# Altium footprint library WL-TMRC_5MM.PcbLib: 1 footprints
Each footprint in its own frame and in the unit in brackets; x right, y up, seen from the top. Pads: shape width x height; smd on the part's side, far side on the other; paste and mask are expansions set on the pad; w line width, h text height; cw(c..) or ccw(c..) is an arc to the next point about the centre after c.
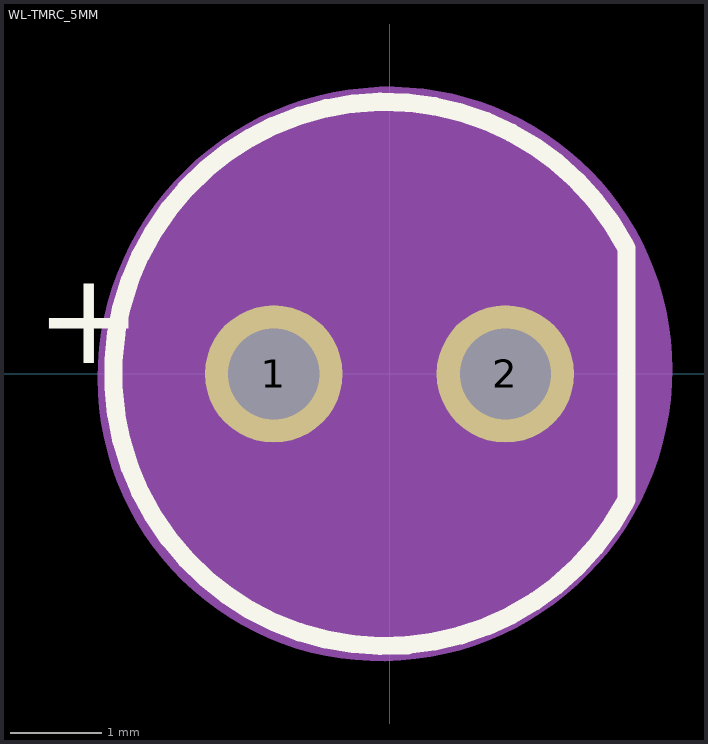
[diagram p0: the footprint, top view; thin cyan lines are the x and y axes]

## WL-TMRC_5MM [mm]
pads (2):
  round 1.508 hole 1: 1(-1.27,0) 2(1.27,0)
Top Overlay:
  lines w0.2: 2.589,-1.401 cw(c-0.047,0) 2.589,1.401 ; 2.6,-1.38 2.6,1.38
  text "+" at -3.88,0.118 h1.02
Assembly Top:
  circle w0.1: c0,0 r2.5
  lines w0.1: 2.493,-1.452 cw(c-0.021,0) 2.493,1.452 ; 2.5,-1.44 2.5,1.44
  text "+" at -3.887,0.131 h1.02
Courtyard Top:
  region: 0.216,3.141 0.376,3.126 0.534,3.103 0.692,3.071 0.847,3.031 1,2.983 1.151,2.928 1.298,2.865 1.442,2.794 1.582,2.715 1.718,2.63 1.849,2.538 1.975,2.439 2.096,2.334 2.212,2.222 2.321,2.105 2.424,1.982 2.521,1.854 2.611,1.721 2.694,1.584 2.77,1.443 2.838,1.297 2.899,1.149 2.952,0.998 2.997,0.844 3.034,0.688 3.063,0.53 3.083,0.371 3.096,0.211 3.1,0.05 3.096,-0.116 3.083,-0.281 3.061,-0.445 3.032,-0.608 2.993,-0.77 2.947,-0.929 2.892,-1.085 2.829,-1.238 2.759,-1.388 2.681,-1.534 2.595,-1.676 2.502,-1.813 2.402,-1.945 2.295,-2.072 2.182,-2.193 2.063,-2.308 1.938,-2.417 1.808,-2.519 1.672,-2.615 1.532,-2.703 1.387,-2.784 1.239,-2.857 1.087,-2.922 0.931,-2.98 0.773,-3.029 0.613,-3.07 0.45,-3.103 0.286,-3.127 0.121,-3.143 -0.049,-3.15 -0.052,-3.15 -0.211,-3.148 -0.374,-3.138 -0.537,-3.119 -0.699,-3.092 -0.859,-3.056 -1.017,-3.012 -1.173,-2.959 -1.325,-2.898 -1.474,-2.83 -1.619,-2.753 -1.76,-2.669 -1.896,-2.577 -2.027,-2.479 -2.153,-2.374 -2.273,-2.262 -2.387,-2.144 -2.495,-2.02 -2.595,-1.89 -2.689,-1.756 -2.776,-1.616 -2.855,-1.473 -2.926,-1.325 -2.99,-1.174 -3.045,-1.019 -3.092,-0.862 -3.131,-0.703 -3.161,-0.541 -3.183,-0.379 -3.196,-0.215 -3.2,-0.051 -3.196,0.118 -3.182,0.287 -3.16,0.455 -3.129,0.621 -3.089,0.786 -3.04,0.948 -2.983,1.108 -2.917,1.264 -2.844,1.416 -2.762,1.565 -2.673,1.709 -2.576,1.848 -2.472,1.981 -2.361,2.109 -2.243,2.231 -2.119,2.347 -1.989,2.455 -1.854,2.557 -1.713,2.652 -1.568,2.739 -1.418,2.818 -1.264,2.889 -1.107,2.951 -0.946,3.006 -0.783,3.051 -0.618,3.089 -0.451,3.117 -0.283,3.136 -0.114,3.147 0.051,3.148
3D body "Download_STP_WL-TMRC-5mm+%28rev1%29.stp": height 8.7, standoff -26.4, extent -2.45,-2.823 2.95,3.076